# Altium footprint library PCB - SOT143B - Nexperia SOT143B.PcbLib: 1 footprints
Each footprint in its own frame and in the unit in brackets; x right, y up, seen from the top. Pads: shape width x height; smd on the part's side, far side on the other; paste and mask are expansions set on the pad; w line width, h text height; cw(c..) or ccw(c..) is an arc to the next point about the centre after c.
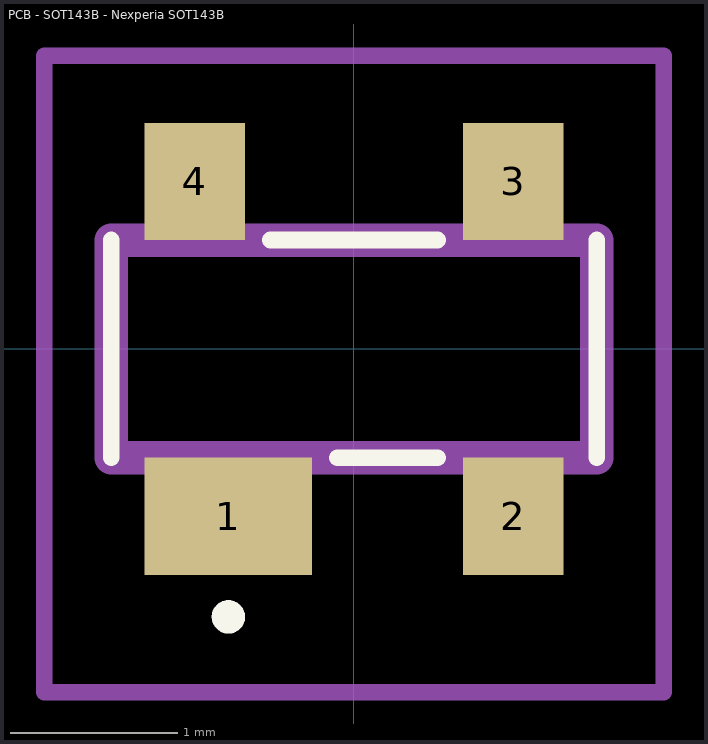
[diagram p0: the footprint, top view; thin cyan lines are the x and y axes]

## PCB - SOT143B - Nexperia SOT143B [mm]
pads (4):
  rect 1x0.7 smd: 1(-0.75,-1)
  rect 0.6x0.7 smd: 2(0.95,-1) 3(0.95,1) 4(-0.95,1)
Top Overlay:
  lines w0.1: -1.45,-0.65 -1.45,0.65 ; -0.5,0.65 0.5,0.65 ; -0.1,-0.65 0.5,-0.65 ; 1.45,-0.65 1.45,0.65 ; -0.8,-1.6 ccw(c-0.75,-1.6) -0.7,-1.6 ccw(c-0.75,-1.6) -0.8,-1.6
Mechanical 13:
  lines w0.2: -1.45,-0.65 -1.45,0.65 1.45,0.65 1.45,-0.65 -1.45,-0.65
Mechanical 15:
  lines w0.1: -1.85,-2.05 -1.85,1.75 1.85,1.75 1.85,-2.05 -1.85,-2.05
3D body "PESD2ETH-AXR.stp": height 1.1, standoff 0, extent -1.45,-1.29 1.45,1.29